# EAGLE library part LCD-1602 (library CaliBeta-Miselaneos)
LCD alfanumerico basado en el integrado HD44780, 16 columnas y 2 filas
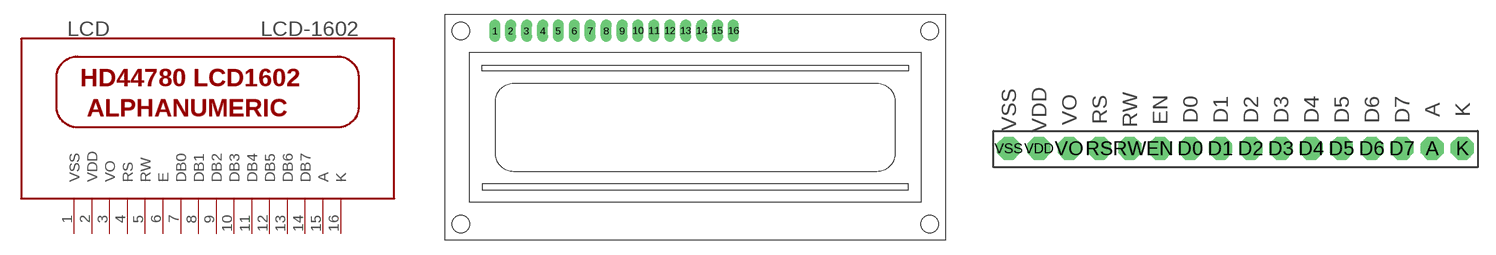
[diagram p0: symbol with the pads of LCD-1602; footprints LCD-1602, LCD-1602-EXT]

Designator prefix LCD

## LCD-1602  [LCD-1602]
1  VSS  sup
2  VDD  sup
3  VO  in
4  RS  in
5  RW  in
6  E  in
7  DB0
8  DB1
9  DB2
10  DB3
11  DB4
12  DB5
13  DB6
14  DB7
15  A  in
16  K  in

## LCD-1602EXT  [LCD-1602-EXT]
A  A  in
D0  DB0
D1  DB1
D2  DB2
D3  DB3
D4  DB4
D5  DB5
D6  DB6
D7  DB7
EN  E  in
K  K  in
RS  RS  in
RW  RW  in
VDD  VDD  sup
VO  VO  in
VSS  VSS  sup

## Footprint LCD-1602 (pad centres in mm)
drill 0.9 pad 1.778 long: 1 -30.1,15.68; 2 -27.56,15.68; 3 -25.02,15.68; 4 -22.48,15.68; 5 -19.94,15.68; 6 -17.4,15.68; 7 -14.86,15.68; 8 -12.32,15.68; 9 -9.78,15.68; 10 -7.24,15.68; 11 -4.7,15.68; 12 -2.16,15.68; 13 0.38,15.68; 14 2.92,15.68; 15 5.46,15.68; 16 8,15.68
hole 2.8 at -35.56,-15.24
hole 2.8 at -35.56,15.68
hole 2.8 at 39.36,15.68
hole 2.8 at 39.36,-15.24

## Footprint LCD-1602-EXT (pad centres in mm)
drill 0.9 pad 1.93 octagon: A 35.559,0.059; D0 15.239,0.059; D1 17.779,0.059; D2 20.319,0.059; D3 22.859,0.059; D4 25.399,0.059; D5 27.939,0.059; D6 30.479,0.059; D7 33.019,0.059; EN 12.699,0.059; K 38.099,0.059; RS 7.619,0.059; RW 10.159,0.059; VDD 2.539,0.059; VO 5.079,0.059; VSS -0.001,0.059